# Altium schematic symbol library CR0805-FX-1543ELF.SchLib: 1 symbol
Pins are listed as number, name and electrical type; pins without a type are passive.

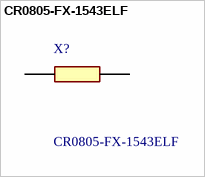
[diagram p0: symbol CR0805-FX-1543ELF]

## CR0805-FX-1543ELF
designator X?
Thick Film Resistors - SMD 154K 1%; Manufacturer_Name: Bourns; Geometry.Height: 0.6mm; Mouser Part Number: 652-CR0805FX-1543ELF; Mouser Price/Stock: https://www.mouser.co.uk/ProductDetail/Bourns/CR0805-FX-1543ELF?qs=Hqdsf0hGw%2FDRTThedSiXGA%3D%3D; Manufacturer_Part_Number: CR0805-FX-1543ELF; Datasheet Link: https://www.bourns.com/pdfs/chpreztr.pdf
footprint RESC2012X60N
pins: 1, 2